# EAGLE library part HDR-1X12 (library con-hdrs40)
HEADER CONNECTOR
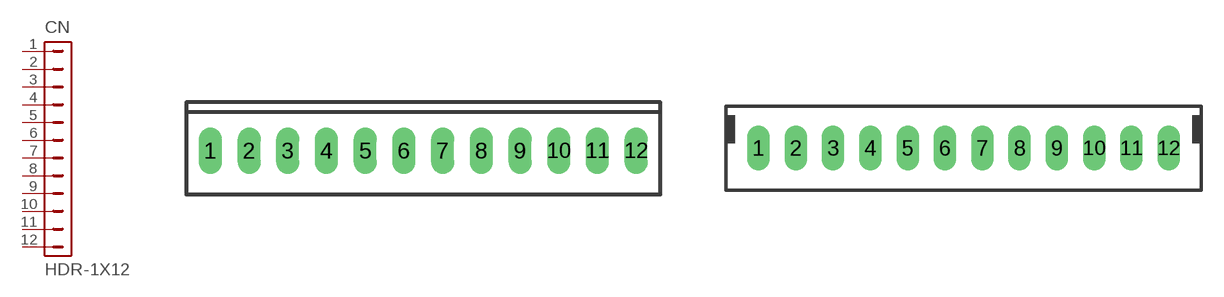
[diagram p6: symbol with the pads of MTA-100-12V; footprints MTA-100-12V, MTE-100-12V]

Designator prefix CN

## HDR-1X12-MTA-100  [MTA-100-12V]
1  1  pas
2  2  pas
3  3  pas
4  4  pas
5  5  pas
6  6  pas
7  7  pas
8  8  pas
9  9  pas
10  10  pas
11  11  pas
12  12  pas

## HDR-1X12-MTE-100  [MTE-100-12V]
Pads as for MTA-100-12V

## HDR-1X12-MTE-100-L  [MTE-100-12VL]
Pads as for MTA-100-12V

## HDR-1X12-SIP-100  [SIP-100-12V]
Pads as for MTA-100-12V

## HDR-1X12-15-91-?  [15-91-12]
Pads as for MTA-100-12V

## HDR-1X12-70543-?  [70543-12]
Pads as for MTA-100-12V

## HDR-1X12-70553-?  [70553-12]
Pads as for MTA-100-12V

## HDR-1X12-FH21-12  [FH21-12]
Pads as for MTA-100-12V

## Footprint MTA-100-12V (pad centres in mm)
AMP MTA Vertical .100" 12 pin
drill 1.016 long: 1 -13.97,0; 2 -11.43,0; 3 -8.89,0; 4 -6.35,0; 5 -3.81,0; 6 -1.27,0; 7 1.27,0; 8 3.81,0; 9 6.35,0; 10 8.89,0; 11 11.43,0; 12 13.97,0

## Footprint MTE-100-12V (pad centres in mm)
AMP MTE Vertical .100" 12 pin
drill 1.016 long: 1 -13.97,0; 2 -11.43,0; 3 -8.89,0; 4 -6.35,0; 5 -3.81,0; 6 -1.27,0; 7 1.27,0; 8 3.81,0; 9 6.35,0; 10 8.89,0; 11 11.43,0; 12 13.97,0

## Footprint MTE-100-12VL (pad centres in mm)
AMP MTE Vertical .100" 12 pin w/latch
drill 1.016 long: 1 -13.97,0; 2 -11.43,0; 3 -8.89,0; 4 -6.35,0; 5 -3.81,0; 6 -1.27,0; 7 1.27,0; 8 3.81,0; 9 6.35,0; 10 8.89,0; 11 11.43,0; 12 13.97,0

## Footprint SIP-100-12V (pad centres in mm)
SIP Header Vertical 100" 12 pin
drill 1.016 long: 1 -13.97,0; 2 -11.43,0; 3 -8.89,0; 4 -6.35,0; 5 -3.81,0; 6 -1.27,0; 7 1.27,0; 8 3.81,0; 9 6.35,0; 10 8.89,0; 11 11.43,0; 12 13.97,0

## Footprint 15-91-12 (pad centres in mm)
Molex C-Grid SL Connector right angle SMD, 12 pin
smd 1.651 x 5.334: 1 -13.97,-10.795; 2 -11.43,-10.795; 3 -8.89,-10.795; 4 -6.35,-10.795; 5 -3.81,-10.795; 6 -1.27,-10.795; 7 1.27,-10.795; 8 3.81,-10.795; 9 6.35,-10.795; 10 8.89,-10.795; 11 11.43,-10.795; 12 13.97,-10.795
hole 3.404 at -15.367,0.838
hole 3.404 at 15.367,0.838

## Footprint 70543-12 (pad centres in mm)
Molex C-Grid SL Connector vertical, 12 pin
drill 1.016 long: 1 -13.97,0; 2 -11.43,0; 3 -8.89,0; 4 -6.35,0; 5 -3.81,0; 6 -1.27,0; 7 1.27,0; 8 3.81,0; 9 6.35,0; 10 8.89,0; 11 11.43,0; 12 13.97,0

## Footprint 70553-12 (pad centres in mm)
Molex C-Grid SL Connector right angle, 12 pin
drill 1.092 long: 1 -13.97,-7.62; 2 -11.43,-7.62; 3 -3.81,-7.62; 4 -8.89,-7.62; 5 -6.35,-7.62; 6 -1.27,-7.62; 7 1.27,-7.62; 8 3.81,-7.62; 9 6.35,-7.62; 10 8.89,-7.62; 11 11.43,-7.62; 12 13.97,-7.62

## Footprint FH21-12 (pad centres in mm)
Hirose FH21 1 MM Flex Connector right angle, 12 pin,
drill 0.813 square: 1 -5.5,-1
drill 0.813 round: 2 -4.5,1; 3 -3.5,-1; 4 -2.5,1; 5 -1.5,-1; 6 -0.5,1; 7 0.5,-1; 8 1.5,1; 9 2.5,-1; 10 3.5,1; 11 4.5,-1; 12 5.5,1